# Altium footprint library SnapEDApcb.PcbLib: 1 footprints
Each footprint in its own frame and in the unit in brackets; x right, y up, seen from the top. Pads: shape width x height; smd on the part's side, far side on the other; paste and mask are expansions set on the pad; w line width, h text height; cw(c..) or ccw(c..) is an arc to the next point about the centre after c.
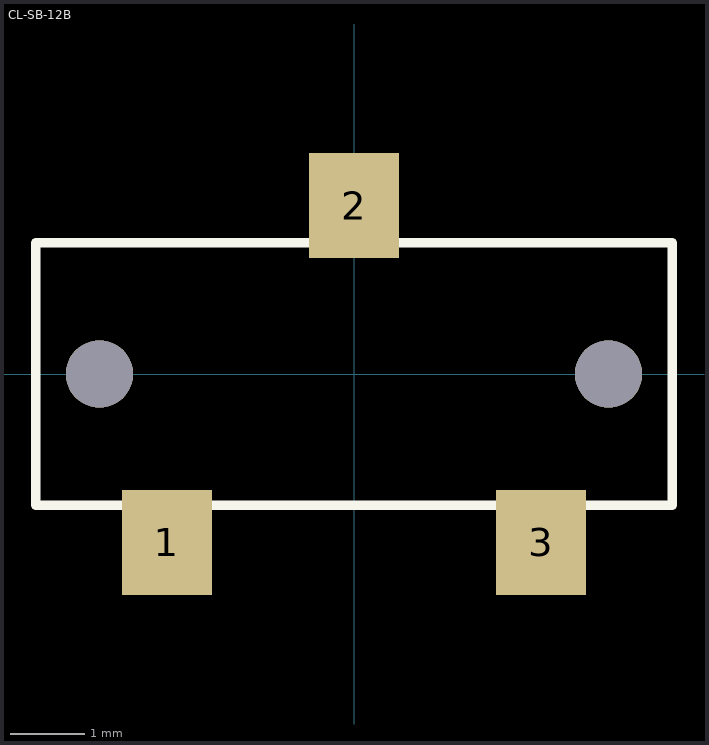
[diagram p0: the footprint, top view; thin cyan lines are the x and y axes]

## CL-SB-12B [mm]
pads (5):
  rect 1.2x1.4 smd: 1(-2.5,-2.25) 2(0,2.25) 3(2.5,-2.25)
  round 0.9 hole 0.9 unplated: ""(-3.4,0) ""(3.4,0)
Top Overlay:
  lines w0.127: -4.25,-1.75 4.25,-1.75 4.25,1.75 -4.25,1.75 -4.25,-1.75